# Altium schematic symbol library KA7805.Schlib: 1 symbol
Pins are listed as number, name and electrical type; pins without a type are passive.

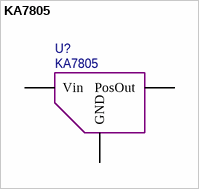
[diagram p0: symbol KA7805]

## KA7805
designator U?
pins: 1 Vin, 3 PosOut, 4 GND